# EAGLE library part 39-30-?12? (library con-molex-mini-fit)
HEADER
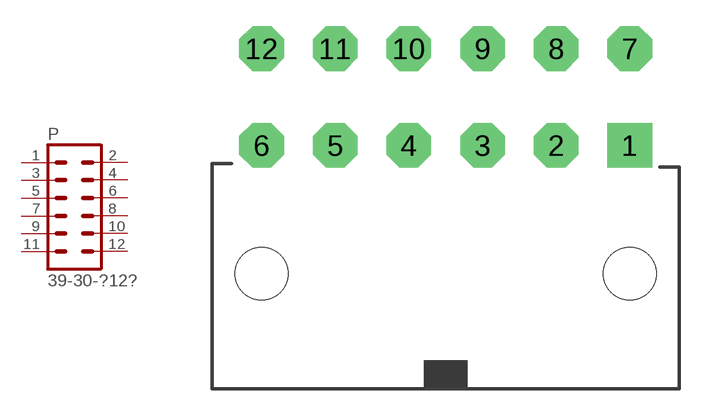
[diagram p3: symbol with the pads of 39-30-?12?; footprint 39-30-?12?]

Designator prefix P

## 39-30-12  [39-30-?12?]
1  1  pas
2  2  pas
3  3  pas
4  4  pas
5  5  pas
6  6  pas
7  7  pas
8  8  pas
9  9  pas
10  10  pas
11  11  pas
12  12  pas

## Footprint 39-30-?12? (pad centres in mm)
HEADER
drill 1.422 pad 2.54 square: 1 10.477,0
drill 1.422 pad 2.54 octagon: 2 6.287,0; 3 2.095,0; 4 -2.095,0; 5 -6.287,0; 6 -10.477,0; 7 10.477,5.512; 8 6.287,5.512; 9 2.095,5.512; 10 -2.095,5.512; 11 -6.287,5.512; 12 -10.477,5.512
hole 3 at -10.477,-7.3
hole 3 at 10.477,-7.3